# Altium schematic symbol library SPM6530T-2R2M.SchLib: 2 symbols
Pins are listed as number, name and electrical type; pins without a type are passive.

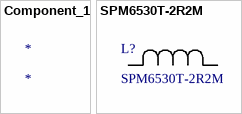
[diagram p0: symbols Component_1 to SPM6530T-2R2M]

## Component_1
designator *

## SPM6530T-2R2M
designator L?
No Description Available; Vendor: TDK; Built_By: EMA_UL_Team; SourceLibrary: TDK_2015_05_22; Manufacturer_Part_Number: SPM6530T-2R2M; Copyright: Copyright (C) 2018 Accelerated Designs. All rights reserved
footprint IND_SPM6530_TDK
pins: 1, 2